# Altium footprint library DIP-CN  0607.PcbLib: 329 footprints (part 10 of 21)
Each footprint in its own frame and in the unit in brackets; x right, y up, seen from the top. Pads: shape width x height; smd on the part's side, far side on the other; paste and mask are expansions set on the pad; w line width, h text height; cw(c..) or ccw(c..) is an arc to the next point about the centre after c.
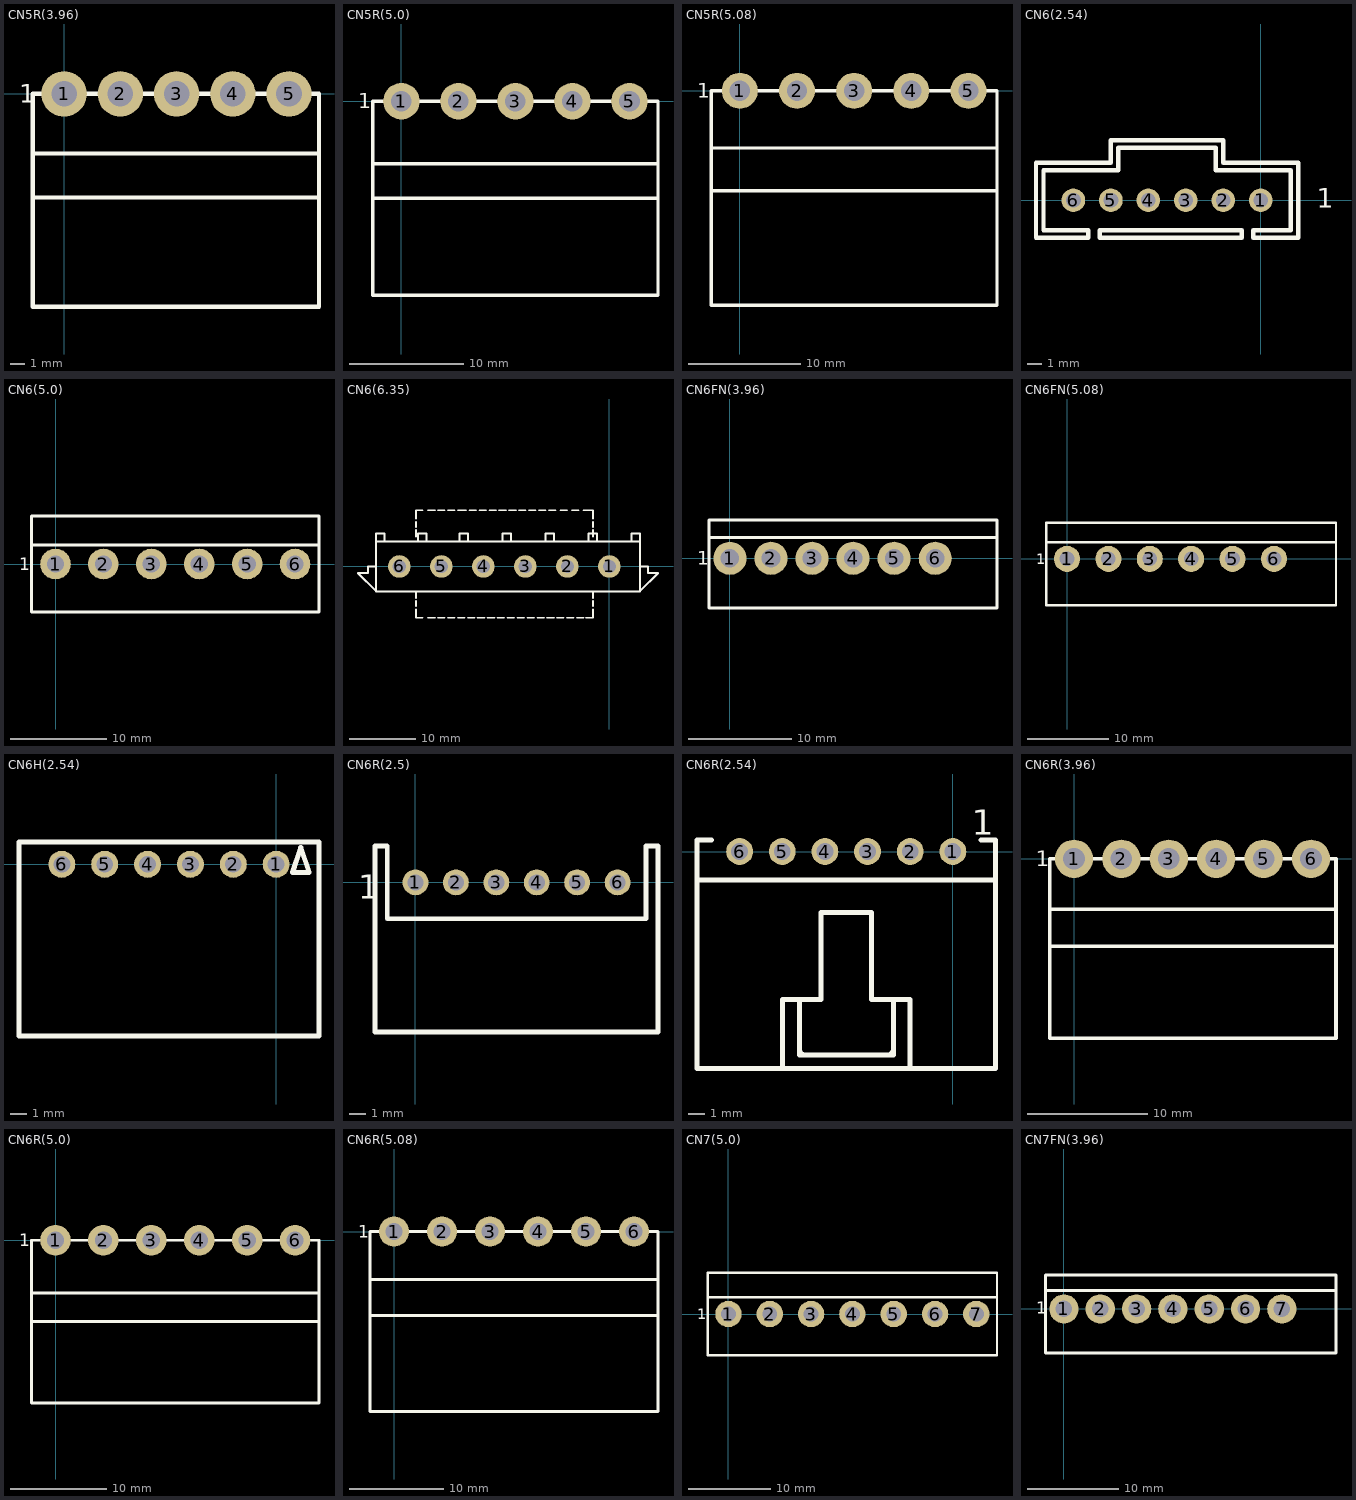
[diagram p9: the footprints below, top view; thin cyan lines are the x and y axes]

## CN5R(3.96) [mm]
pads (5):
  round 3.2 hole 1.8: 1(0,0) 2(3.96,0) 3(7.92,0) 4(11.88,0) 5(15.84,0)
TopOverlay:
  lines w0.3: -2.199,-7.3 17.951,-7.3 ; -2.199,-4.2 17.951,-4.2 ; -2.199,0 -2.199,-15 17.951,-15 17.951,0 -2.143,0
  text "1" at -3.175,-0.635 h1.3

## CN5R(5.0) [mm]
pads (5):
  round 3.2 hole 1.8: 1(0,0) 2(5,0) 3(10,0) 4(15,0) 5(20,0)
TopOverlay:
  lines w0.3: -2.5,-8.5 22.5,-8.5 ; -2.5,-5.5 22.5,-5.5 ; -2.5,-17 -2.5,0 22.5,0 22.5,-17 -2.5,-17
  text "1" at -3.81,-0.635 h1.3

## CN5R(5.08) [mm]
pads (5):
  round 3.2 hole 1.8: 1(0,0) 2(5.08,0) 3(10.16,0) 4(15.24,0) 5(20.32,0)
TopOverlay:
  lines w0.3: -2.54,-8.89 22.86,-8.89 ; -2.54,-5.08 22.86,-5.08 ; -2.54,-19.05 22.86,-19.05 22.86,0 -2.54,0 -2.54,-19.05
  text "1" at -3.81,-0.635 h1.3

## CN6(2.54) [mm]
pads (6):
  round 1.6 hole 1: 1(0,0) 2(-2.54,0) 3(-5.08,0) 4(-7.62,0) 5(-10.16,0) 6(-12.7,0)
TopOverlay:
  lines w0.3: -15.24,-2.54 -11.684,-2.54 -11.684,-2.032 -14.732,-2.032 -14.732,2.032 -9.652,2.032 -9.652,3.556 -3.048,3.556 -3.048,2.032 2.032,2.032 2.032,-2.032 -0.508,-2.032 -0.508,-2.54 2.54,-2.54 2.54,2.54 -2.54,2.54 -2.54,4.064 -10.16,4.064 -10.16,2.54 -15.24,2.54 -15.24,-2.54 ; -10.922,-2.54 -10.922,-2.032 -1.27,-2.032 -1.27,-2.54 -10.922,-2.54
  text "1" at 3.81,-0.508 h1.3
BottomOverlay:
  lines w0.3: -11.43,-1.27 -11.43,1.27 ; -8.89,-1.27 -8.89,1.27 ; -6.35,-1.27 -6.35,1.27 ; -3.81,-1.27 -3.81,1.27 ; -1.27,-1.27 -1.27,1.27

## CN6(5.0) [mm]
pads (6):
  round 3.2 hole 1.8: 1(0,0) 2(5,0) 3(10,0) 4(15,0) 5(20,0) 6(25,0)
TopOverlay:
  lines w0.3: -2.5,2 27.5,2 ; -2.5,-5 27.5,-5 27.5,5 -2.5,5 -2.5,-5
  text "1" at -3.81,-0.635 h1.3

## CN6(6.35) [mm]
pads (6):
  round 3.4 hole 2: 1(0,0) 2(-6.35,0) 3(-12.7,0) 4(-19.05,0) 5(-25.4,0) 6(-31.75,0)
TopOverlay:
  lines w0.3: -35.25,0 -36.5,0 -36.5,-1 -36.825,-1 -38,-1 -35.25,-3.75 ; -34,3.75 -34,5 -35.25,5 -35.25,3.75 ; -29.241,-6.5 -29.241,-7.75 -28.25,-7.75 ; -29.241,-6 -29.241,-5.25 ; -29.241,-4.75 -29.241,-3.75 ; -29.241,4.5 -29.241,5.5 ; -29.241,6 -29.241,6.75 ; -29.241,7.25 -29.241,8.5 -28.25,8.5 ; -28.9,3.75 -28.9,5 -27.65,5 -27.65,3.75 ; -27.382,-7.75 -26.382,-7.75 ; -27.382,8.5 -26.382,8.5 ; -25.891,-7.75 -24.891,-7.75 ; -25.891,8.5 -24.891,8.5 ; -24.391,-7.75 -23.391,-7.75 ; -24.391,8.5 -23.391,8.5 ; -22.891,-7.75 -21.891,-7.75 ; -22.891,8.5 -21.641,8.5 ; -22.65,3.75 -22.65,5 -21.4,5 -21.4,3.75 ; -21.4,-7.75 -20.4,-7.75 ; -21.15,8.5 -20.15,8.5 ; -19.9,-7.75 -18.9,-7.75 ; -19.65,8.5 -18.65,8.5 ; -18.4,-7.75 -17.4,-7.75 ; -18.15,8.5 -17.15,8.5 ; -16.9,-7.75 -15.9,-7.75 ; -16.65,8.5 -15.65,8.5 ; -16.15,3.75 -16.15,5 -14.9,5 -14.9,3.75 ; -15.4,-7.75 -14.4,-7.75 ; -15.15,8.5 -14.15,8.5 ; -13.9,-7.75 -12.9,-7.75 ; -13.65,8.5 -12.65,8.5 ; -12.4,-7.75 -11.4,-7.75 ; -12.15,8.5 -11.15,8.5 ; -10.9,-7.75 -9.9,-7.75 ; -10.65,8.5 -9.65,8.5 ; -9.65,3.75 -9.65,5 -8.4,5 -8.4,3.75 ; -9.4,-7.75 -8.4,-7.75 ; -9.15,8.5 -8.15,8.5 ; -7.9,-7.75 -6.9,-7.75 ; -7.4,8.5 -6.4,8.5 ; -6.4,-7.75 -5.4,-7.75 ; -5.65,8.5 -4.65,8.5 ; -4.9,-7.75 -3.9,-7.75 ; -3.9,8.5 -2.65,8.5 ; -3.509,-7.75 -2.509,-7.75 -2.509,-6.5 ; -3.15,3.75 -3.15,5 -1.9,5 -1.9,3.75 ; -2.509,-6 -2.509,-5.25 ; -2.509,-4.75 -2.509,-3.75 ; -2.509,4.5 -2.509,5.5 ; -2.509,6 -2.509,6.75 ; -2.509,7.25 -2.509,8.5 ; 3.35,3.75 3.35,5 4.6,5 4.6,3.75 ; 4.6,0 5.85,0 5.85,-1 7.35,-1 4.6,-3.75 ; -35.25,-3.75 4.6,-3.75 ; -35.25,-3.75 -35.25,3.75 ; -35.25,3.75 -1.9,3.75 ; -1.9,3.75 4.6,3.75 ; 4.6,-3.75 4.6,3.75

## CN6FN(3.96) [mm]
pads (6):
  round 3.2 hole 1.8: 1(0,0) 2(3.96,0) 3(7.92,0) 4(11.88,0) 5(15.84,0) 6(19.8,0)
TopOverlay:
  lines w0.3: -2,2 25.728,2 ; -2,-4.8 25.76,-4.8 25.76,3.7 -2,3.7 -2,-4.8
  text "1" at -3.175,-0.635 h1.3

## CN6FN(5.08) [mm]
pads (6):
  round 3.2 hole 1.8: 1(0,0) 2(5.08,0) 3(10.16,0) 4(15.24,0) 5(20.32,0) 6(25.4,0)
TopOverlay:
  lines w0.3: -2.54,-5.715 33.02,-5.715 33.02,4.445 -2.54,4.445 -2.54,-5.635 ; -2.54,2.01 32.998,2.01
  text "1" at -3.81,-0.635 h1.3

## CN6H(2.54) [mm]
pads (6):
  round 1.6 hole 1: 1(0,0) 2(-2.54,0) 3(-5.08,0) 4(-7.62,0) 5(-10.16,0) 6(-12.7,0)
TopOverlay:
  lines w0.3: -15.24,-10.18 -15.24,1.32 2.54,1.32 2.54,-10.18 -15.24,-10.18 ; 0.96,-0.5 1.96,-0.5 1.46,1 0.96,-0.5
BottomOverlay:
  lines w0.3: -11.43,-1.27 -11.43,1.27 ; -8.89,-1.27 -8.89,1.27 ; -6.35,-1.27 -6.35,1.27 ; -3.81,-1.27 -3.81,1.27 ; -1.27,-1.27 -1.27,1.27

## CN6R(2.5) [mm]
pads (6):
  round 1.6 hole 1: 1(0,0) 2(2.5,0) 3(5,0) 4(7.5,0) 5(10,0) 6(12.5,0)
TopOverlay:
  lines w0.3: -2.5,-9.25 15,-9.25 15,2.25 14.25,2.25 14.25,-2.25 -1.75,-2.25 -1.75,2.25 -2.5,2.25 -2.5,-9.25
  text "1" at -3.556,-1.016 h1.5
BottomOverlay:
  lines w0.3: 1.23,-1.27 1.23,1.27 ; 3.73,-1.27 3.73,1.27 ; 6.23,-1.27 6.23,1.27 ; 8.73,-1.27 8.73,1.27 ; 11.23,-1.27 11.23,1.27

## CN6R(2.54) [mm]
pads (6):
  round 1.6 hole 1: 1(0,0) 2(-2.54,0) 3(-5.08,0) 4(-7.62,0) 5(-10.16,0) 6(-12.7,0)
TopOverlay:
  lines w0.2: -9.14,-11.624 ccw(c-8.64,-11.624) -8.64,-12.124 ; -4.04,-12.124 ccw(c-4.04,-11.624) -3.54,-11.624
  lines w0.3: -15.191,-1.7 -10.12,-1.7 2.5,-1.7 ; -14.37,0.68 -15.24,0.68 -15.24,-12.92 2.54,-12.92 2.54,0.68 1.67,0.68 ; -10.14,-12.824 -10.14,-10.124 -10.14,-8.824 -9.14,-8.824 ; -2.54,-12.824 -2.54,-8.824 -3.54,-8.824 ; -9.14,-8.824 -9.14,-12.124 -3.54,-12.124 -3.54,-8.824 ; -9.14,-8.824 -7.84,-8.824 -7.84,-3.624 -4.84,-3.624 -4.84,-8.824 -3.54,-8.824
  text "1" at 1.13,1 h1.5
BottomOverlay:
  lines w0.3: -11.43,-0.813 -11.43,0.787 ; -8.89,-0.813 -8.89,0.787 ; -6.35,-0.813 -6.35,0.787 ; -3.81,-0.813 -3.81,0.787 ; -1.27,-0.813 -1.27,0.787

## CN6R(3.96) [mm]
pads (6):
  round 3.2 hole 1.8: 1(0,0) 2(3.96,0) 3(7.92,0) 4(11.88,0) 5(15.84,0) 6(19.8,0)
TopOverlay:
  lines w0.3: -2.012,-7.3 21.888,-7.3 ; -2.012,-4.2 21.888,-4.2 ; -2.012,0 -2.012,-15 21.888,-15 21.888,0 -1.956,0
  text "1" at -3.175,-0.635 h1.3

## CN6R(5.0) [mm]
pads (6):
  round 3.2 hole 1.8: 1(0,0) 2(5,0) 3(10,0) 4(15,0) 5(20,0) 6(25,0)
TopOverlay:
  lines w0.3: -2.5,-8.5 27.5,-8.5 ; -2.5,-5.5 27.5,-5.5 ; -2.5,-17 -2.5,0 27.5,0 27.5,-17 -2.5,-17
  text "1" at -3.81,-0.635 h1.3

## CN6R(5.08) [mm]
pads (6):
  round 3.2 hole 1.8: 1(0,0) 2(5.08,0) 3(10.16,0) 4(15.24,0) 5(20.32,0) 6(25.4,0)
TopOverlay:
  lines w0.3: -2.54,-8.89 27.94,-8.89 ; -2.54,-5.08 27.94,-5.08 ; -2.54,-19.05 -2.54,0 27.94,0 27.94,-19.05 -2.54,-19.05
  text "1" at -3.81,-0.635 h1.3

## CN7(5.0) [mm]
pads (7):
  round 3.2 hole 1.8: 1(0,0) 2(5,0) 3(10,0) 4(15,0) 5(20,0) 6(25,0) 7(30,0)
TopOverlay:
  lines w0.3: -2.5,2 32.5,2 ; -2.5,-5 -2.5,5 32.5,5 32.5,-5 -2.5,-5
  text "1" at -3.81,-0.635 h1.3

## CN7FN(3.96) [mm]
pads (7):
  round 3.2 hole 1.8: 1(0,0) 2(3.96,0) 3(7.92,0) 4(11.88,0) 5(15.84,0) 6(19.8,0) 7(23.76,0)
TopOverlay:
  lines w0.3: -2,2 29.628,2 ; -2,-4.8 29.66,-4.8 29.66,3.7 -2,3.7 -2,-4.8
  text "1" at -3.048,-0.508 h1.3